# EAGLE library part MLX90393 (library MLX90363)
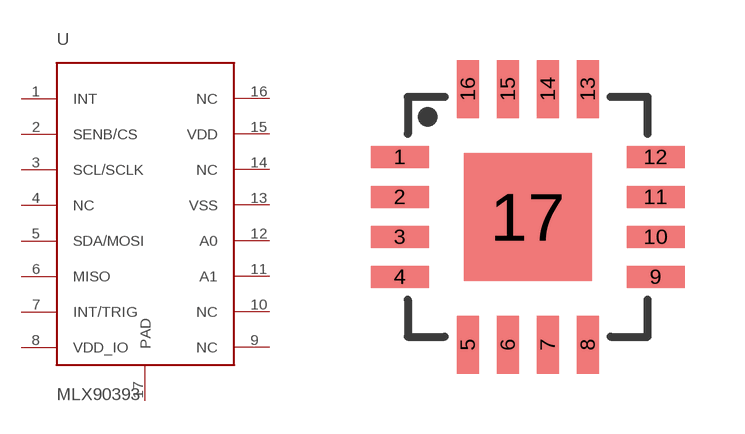
[diagram p1: symbol with the pads of QFN16-HS; footprint QFN16-HS]

Designator prefix -

## MLX90393  [QFN16-HS]
1  INT  out
2  SENB/CS  in
3  SCL/SCLK  in
4  NC  nc
5  SDA/MOSI
6  MISO  out
7  INT/TRIG
8  VDD_IO  pwr
9  NC  nc
10  NC  nc
11  A1  pas
12  A0  pas
13  VSS  pwr
14  NC  nc
15  VDD  pwr
16  NC  nc
17  PAD  pas

## Footprint QFN16-HS (pad centres in mm)
smd 1.45 x 0.55: 1 -3.2,1.5; 2 -3.2,0.5; 3 -3.2,-0.5; 4 -3.2,-1.5; 9 3.2,-1.5; 10 3.2,-0.5; 11 3.2,0.5; 12 3.2,1.5
smd 0.55 x 1.45: 5 -1.5,-3.2; 6 -0.5,-3.2; 7 0.5,-3.2; 8 1.5,-3.2; 13 1.5,3.2; 14 0.5,3.2; 15 -0.5,3.2; 16 -1.5,3.2
smd 3.2 x 3.2: 17 0,0